# Altium schematic symbol library Conn_6pin.SchLib: 1 symbol
Pins are listed as number, name and electrical type; pins without a type are passive.

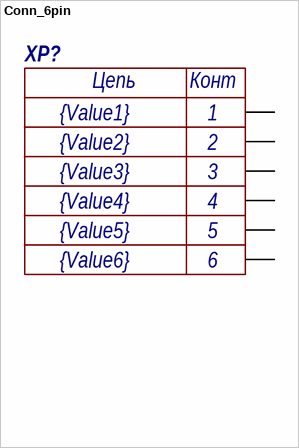
[diagram p0: symbol Conn_6pin]

## Conn_6pin
designator XP?  Value1: {Value1}  Value2: {Value2}  Value3: {Value3}  Value4: {Value4}  Value5: {Value5}  Value6: {Value6}
pins: 1, 2, 3, 4, 5, 6
text: Цепь; Конт